# EAGLE library part FDC6420C (library IC & Transistor)
SMD Mosfet FDC6420C
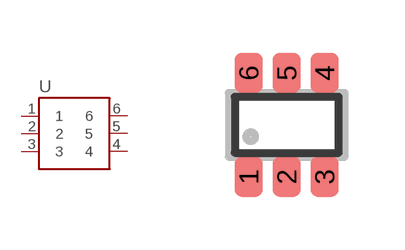
[diagram p57: symbol with the pads of SUPERSOT-6; footprint SUPERSOT-6]

Designator prefix -

## FDC6420C_(SUPERSOT-6) (CYTRON-PC: S-Q-FDC6420C-SOT23; DESC: S Mosfet FDC6420C SOT23; MF: FAIRCHILD; MPN: FDC6420 C; VALUE: 20V)  [SUPERSOT-6]
1  1
2  2
3  3
4  4
5  5
6  6

## Footprint SUPERSOT-6 (pad centres in mm)
Super Small Outline Transistor 6 pins (SuperSOT-6). JEDEC MO-193. Size: 2.9 x 1.6mm. Created by: OoiBP
smd 0.7 x 1: 1 -0.95,-1.3; 2 0,-1.3; 3 0.95,-1.3; 4 0.95,1.3; 5 0,1.3; 6 -0.95,1.3